# Altium footprint library led rgb.PcbLib: 1 footprints
Each footprint in its own frame and in the unit in brackets; x right, y up, seen from the top. Pads: shape width x height; smd on the part's side, far side on the other; paste and mask are expansions set on the pad; w line width, h text height; cw(c..) or ccw(c..) is an arc to the next point about the centre after c.
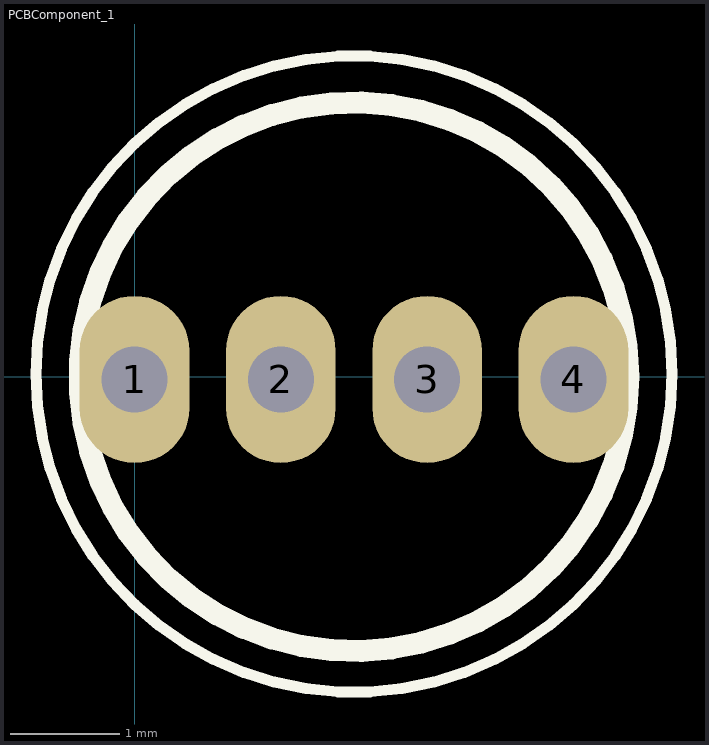
[diagram p0: the footprint, top view; thin cyan lines are the x and y axes]

## PCBComponent_1 [mm]
pads (4):
  oval 1x1.524 hole 0.6: 1(0,-0.025) 2(1.333,-0.025) 3(2.667,-0.025) 4(4,-0.025)
Top Overlay:
  circle w0.1: c2,0.025 r2.9
  circle w0.2: c2,0 r2.5